# EAGLE library part PIC32MX170F256B-50I/SO (library micromouse)
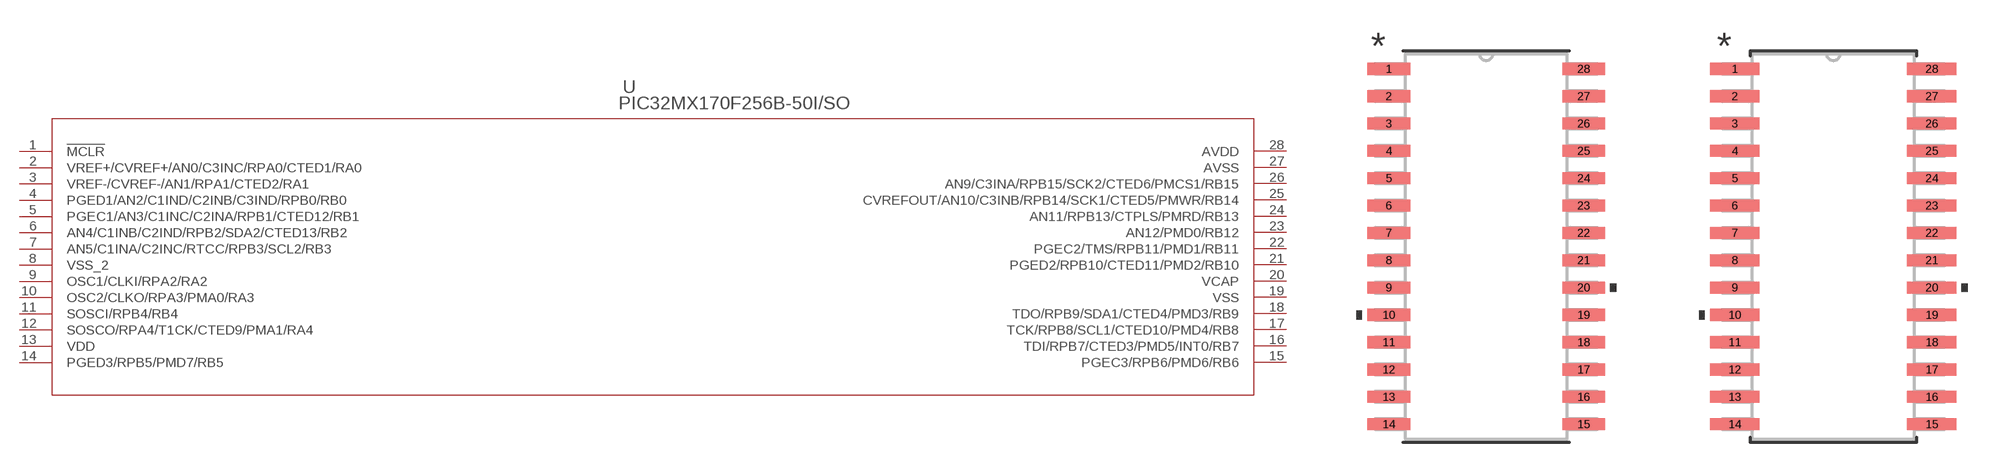
[diagram p11: symbol with the pads of SOIC28-W_MC_MCH; footprints SOIC28-W_MC_MCH, SOIC28-W_MC_MCH-M]

Designator prefix U

## PIC32MX170F256B-50I/SO (COPYRIGHT: Copyright (C) 2021 Ultra Librarian. All rights reserved.; MANUFACTURER_PART_NUMBER: PIC32MX170F256B-50I/SO; MFR_NAME: Microchip)  [SOIC28-W_MC_MCH]
1  !MCLR
2  VREF+/CVREF+/AN0/C3INC/RPA0/CTED1/RA0
3  VREF-/CVREF-/AN1/RPA1/CTED2/RA1
4  PGED1/AN2/C1IND/C2INB/C3IND/RPB0/RB0
5  PGEC1/AN3/C1INC/C2INA/RPB1/CTED12/RB1
6  AN4/C1INB/C2IND/RPB2/SDA2/CTED13/RB2
7  AN5/C1INA/C2INC/RTCC/RPB3/SCL2/RB3
8  VSS_2  pwr
9  OSC1/CLKI/RPA2/RA2
10  OSC2/CLKO/RPA3/PMA0/RA3
11  SOSCI/RPB4/RB4
12  SOSCO/RPA4/T1CK/CTED9/PMA1/RA4
13  VDD  pwr
14  PGED3/RPB5/PMD7/RB5
15  PGEC3/RPB6/PMD6/RB6
16  TDI/RPB7/CTED3/PMD5/INT0/RB7
17  TCK/RPB8/SCL1/CTED10/PMD4/RB8
18  TDO/RPB9/SDA1/CTED4/PMD3/RB9
19  VSS  pwr
20  VCAP  pwr
21  PGED2/RPB10/CTED11/PMD2/RB10
22  PGEC2/TMS/RPB11/PMD1/RB11
23  AN12/PMD0/RB12
24  AN11/RPB13/CTPLS/PMRD/RB13
25  CVREFOUT/AN10/C3INB/RPB14/SCK1/CTED5/PMWR/RB14
26  AN9/C3INA/RPB15/SCK2/CTED6/PMCS1/RB15
27  AVSS  pwr
28  AVDD  pwr

## PIC32MX170F256B-50I/SOSOIC28-W_MC_MCH-M (COPYRIGHT: Copyright (C) 2021 Ultra Librarian. All rights reserved.; MANUFACTURER_PART_NUMBER: PIC32MX170F256B-50I/SO; MFR_NAME: Microchip)  [SOIC28-W_MC_MCH-M]
Pads as for SOIC28-W_MC_MCH

## PIC32MX170F256B-50I/SOSOIC28-W_MC_MCH-L (COPYRIGHT: Copyright (C) 2021 Ultra Librarian. All rights reserved.; MANUFACTURER_PART_NUMBER: PIC32MX170F256B-50I/SO; MFR_NAME: Microchip)  [SOIC28-W_MC_MCH-L]
Pads as for SOIC28-W_MC_MCH

## Footprint SOIC28-W_MC_MCH (pad centres in mm)
smd 1.981 x 0.559: 1 -4.521,8.255; 2 -4.521,6.985; 3 -4.521,5.715; 4 -4.521,4.445; 5 -4.521,3.175; 6 -4.521,1.905; 7 -4.521,0.635; 8 -4.521,-0.635; 9 -4.521,-1.905; 10 -4.521,-3.175; 11 -4.521,-4.445; 12 -4.521,-5.715; 13 -4.521,-6.985; 14 -4.521,-8.255; 15 4.521,-8.255; 16 4.521,-6.985; 17 4.521,-5.715; 18 4.521,-4.445; 19 4.521,-3.175; 20 4.521,-1.905; 21 4.521,-0.635; 22 4.521,0.635; 23 4.521,1.905; 24 4.521,3.175; 25 4.521,4.445; 26 4.521,5.715; 27 4.521,6.985; 28 4.521,8.255

## Footprint SOIC28-W_MC_MCH-M (pad centres in mm)
smd 2.286 x 0.559: 1 -4.572,8.255; 2 -4.572,6.985; 3 -4.572,5.715; 4 -4.572,4.445; 5 -4.572,3.175; 6 -4.572,1.905; 7 -4.572,0.635; 8 -4.572,-0.635; 9 -4.572,-1.905; 10 -4.572,-3.175; 11 -4.572,-4.445; 12 -4.572,-5.715; 13 -4.572,-6.985; 14 -4.572,-8.255; 15 4.572,-8.255; 16 4.572,-6.985; 17 4.572,-5.715; 18 4.572,-4.445; 19 4.572,-3.175; 20 4.572,-1.905; 21 4.572,-0.635; 22 4.572,0.635; 23 4.572,1.905; 24 4.572,3.175; 25 4.572,4.445; 26 4.572,5.715; 27 4.572,6.985; 28 4.572,8.255

## Footprint SOIC28-W_MC_MCH-L (pad centres in mm)
smd 1.676 x 0.508: 1 -4.47,8.255; 2 -4.47,6.985; 3 -4.47,5.715; 4 -4.47,4.445; 5 -4.47,3.175; 6 -4.47,1.905; 7 -4.47,0.635; 8 -4.47,-0.635; 9 -4.47,-1.905; 10 -4.47,-3.175; 11 -4.47,-4.445; 12 -4.47,-5.715; 13 -4.47,-6.985; 14 -4.47,-8.255; 15 4.47,-8.255; 16 4.47,-6.985; 17 4.47,-5.715; 18 4.47,-4.445; 19 4.47,-3.175; 20 4.47,-1.905; 21 4.47,-0.635; 22 4.47,0.635; 23 4.47,1.905; 24 4.47,3.175; 25 4.47,4.445; 26 4.47,5.715; 27 4.47,6.985; 28 4.47,8.255